# Altium schematic symbol library SEN0344.SchLib: 1 symbol
Pins are listed as number, name and electrical type; pins without a type are passive.

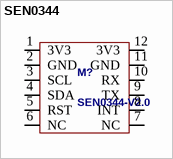
[diagram p0: symbol SEN0344]

## SEN0344
designator M?, comment SEN0344-V2.0
pins: 1 3V3, 2 GND, 3 SCL, 4 SDA, 5 RST, 6 NC, 7 NC, 8 INT, 9 TX, 10 RX, 11 GND, 12 3V3